# Altium integrated library RT3215-32.768-12.5-TR.IntLib: 1 symbol
Pins are listed as number, name and electrical type; pins without a type are passive.

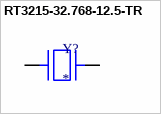
[diagram p0: symbol RT3215-32.768-12.5-TR]

## RT3215-32.768-12.5-TR
designator Y?
footprint XTAL_RT3215-32.768-12.5-TR
pins: 1, 2